# Altium schematic symbol library SPVS.SchLib: 1 symbol
Pins are listed as number, name and electrical type; pins without a type are passive.

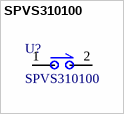
[diagram p0: symbol SPVS310100]

## SPVS310100
designator U?
小型双向动作型
footprint SPVS310100
pins: 1, 2